# Altium schematic symbol library SCH - CLOCK BUFFER - TI LMK1C1104.SchLib: 1 symbol
Pins are listed as number, name and electrical type; pins without a type are passive.

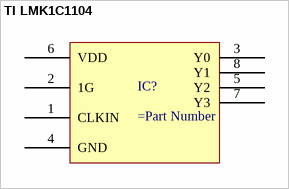
[diagram p0: symbol TI LMK1C1104]

## TI LMK1C1104
designator IC?
pins: 1 CLKIN, 2 1G, 3 Y0, 4 GND, 5 Y2, 6 VDD, 7 Y3, 8 Y1